# EAGLE library part 625050230621 (library Wire-to-Board (rev18a))
WR-BHD 2.00mm Male SMT Box Header With Lever, 50 pins
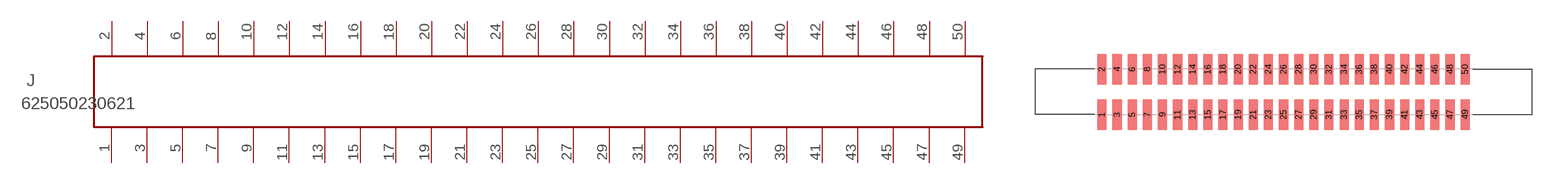
[diagram p264: symbol with the pads of 625050230621; footprint 625050230621]

Designator prefix J

## 625050230621  [625050230621]
1  1  pas
2  2  pas
3  3  pas
4  4  pas
5  5  pas
6  6  pas
7  7  pas
8  8  pas
9  9  pas
10  10  pas
11  11  pas
12  12  pas
13  13  pas
14  14  pas
15  15  pas
16  16  pas
17  17  pas
18  18  pas
19  19  pas
20  20  pas
21  21  pas
22  22  pas
23  23  pas
24  24  pas
25  25  pas
26  26  pas
27  27  pas
28  28  pas
29  29  pas
30  30  pas
31  31  pas
32  32  pas
33  33  pas
34  34  pas
35  35  pas
36  36  pas
37  37  pas
38  38  pas
39  39  pas
40  40  pas
41  41  pas
42  42  pas
43  43  pas
44  44  pas
45  45  pas
46  46  pas
47  47  pas
48  48  pas
49  49  pas
50  50  pas

## Footprint 625050230621 (pad centres in mm)
WR-BHD-2.00mm Male SMT Box Header With Lever,50 pins
smd 1.2 x 4: 1 -24,-3; 2 -24,3; 3 -22,-3; 4 -22,3; 5 -20,-3; 6 -20,3; 7 -18,-3; 8 -18,3; 9 -16,-3; 10 -16,3; 11 -14,-3; 12 -14,3; 13 -12,-3; 14 -12,3; 15 -10,-3; 16 -10,3; 17 -8,-3; 18 -8,3; 19 -6,-3; 20 -6,3; 21 -4,-3; 22 -4,3; 23 -2,-3; 24 -2,3; 25 0,-3; 26 0,3; 27 2,-3; 28 2,3; 29 4,-3; 30 4,3; 31 6,-3; 32 6,3; 33 8,-3; 34 8,3; 35 10,-3; 36 10,3; 37 12,-3; 38 12,3; 39 14,-3; 40 14,3; 41 16,-3; 42 16,3; 43 18,-3; 44 18,3; 45 20,-3; 46 20,3; 47 22,-3; 48 22,3; 49 24,-3; 50 24,3